# Altium integrated library 2019-12-05_19-06-33.IntLib: 2 symbols
Pins are listed as number, name and electrical type; pins without a type are passive.

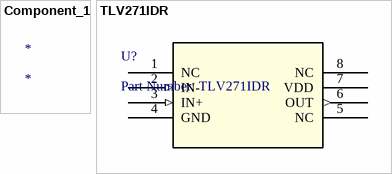
[diagram p0: symbols Component_1 to TLV271IDR]

## Component_1
designator *

## TLV271IDR
designator U?, comment Part Number: TLV271IDR
No Description Available; Vendor: Texas Instruments; Built_By: EMA_UL_Team; Manufacturer_Part_Number: TLV271IDR; Copyright: Copyright (C) 2018 Accelerated Designs. All rights reserved; RefDes: RefDes; Type: DEV; Value: Value
footprint P8
pins: 1 NC, 2 IN- (in), 3 IN+ (in), 4 GND (power), 5 NC, 6 OUT (out), 7 VDD (power), 8 NC